# Altium schematic symbol library 691 201 720 0xxS.SchLib: 2 symbols
Pins are listed as number, name and electrical type; pins without a type are passive.

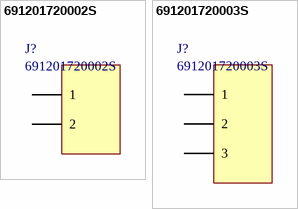
[diagram p0: symbols 691201720002S to 691201720003S]

## 691201720002S
designator J?
45° Cable Entry with Rising Cage Clamp, Serie 201S - 5.00 mm; Manufacturer: Wurth Elektronik; ComponentLink1 Description: Manufacturer; ComponentLink2 Description: Datasheet; NoPins: 2; ComponentLink1 URL: http://www.we-online.com; ComponentLink2 URL: http://katalog.we-online.de/em/datasheet/6912017200xxS.pdf; Created By: Baojun Chen; Created Date: 6-Aug-15; PartNo: 691201720002S
footprint 691201720002S (Serie 201S - 5.00 mm _ 2 pins)
pins: 1, 2

## 691201720003S
designator J?
45° Cable Entry with Rising Cage Clamp, Serie 201S - 5.00 mm; Manufacturer: Wurth Elektronik; ComponentLink1 Description: Manufacturer; ComponentLink2 Description: Datasheet; NoPins: 3; ComponentLink1 URL: http://www.we-online.com; ComponentLink2 URL: http://katalog.we-online.de/em/datasheet/6912017200xxS.pdf; Created By: Baojun Chen; Created Date: 6-Aug-15; PartNo: 691201720003S
footprint 691201720003S (Serie 201S - 5.00 mm _ 3 pins)
pins: 1, 2, 3